# EAGLE library part MAPLE_MINI (library maple_mini)
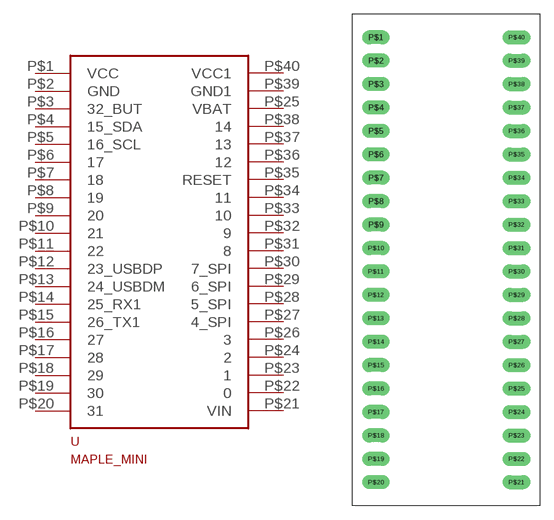
[diagram p0: symbol with the pads of MAPLE_MINI; footprint MAPLE_MINI]

Designator prefix -

## MAPLE_MINI  [MAPLE_MINI]
P$1  VCC
P$2  GND
P$3  32_BUT
P$4  15_SDA
P$5  16_SCL
P$6  17
P$7  18
P$8  19
P$9  20
P$10  21
P$11  22
P$12  23_USBDP
P$13  24_USBDM
P$14  25_RX1
P$15  26_TX1
P$16  27
P$17  28
P$18  29
P$19  30
P$20  31
P$21  VIN
P$22  0
P$23  1
P$24  2
P$25  VBAT
P$26  3
P$27  4_SPI
P$28  5_SPI
P$29  6_SPI
P$30  7_SPI
P$31  8
P$32  9
P$33  10
P$34  11
P$35  RESET
P$36  12
P$37  13
P$38  14
P$39  GND1
P$40  VCC1

## Footprint MAPLE_MINI (pad centres in mm)
drill 1 long: P$1 0,0; P$2 0,-2.54; P$3 0,-5.08; P$4 0,-7.62; P$5 0,-10.16; P$6 0,-12.7; P$7 0,-15.24; P$8 0,-17.78; P$9 0,-20.32; P$10 0,-22.86; P$11 0,-25.4; P$12 0,-27.94; P$13 0,-30.48; P$14 0,-33.02; P$15 0,-35.56; P$16 0,-38.1; P$17 0,-40.64; P$18 0,-43.18; P$19 0,-45.72; P$20 0,-48.26; P$21 15.24,-48.26; P$22 15.24,-45.72; P$23 15.24,-43.18; P$24 15.24,-40.64; P$25 15.24,-38.1; P$26 15.24,-35.56; P$27 15.24,-33.02; P$28 15.24,-30.48; P$29 15.24,-27.94; P$30 15.24,-25.4; P$31 15.24,-22.86; P$32 15.24,-20.32; P$33 15.24,-17.78; P$34 15.24,-15.24; P$35 15.24,-12.7; P$36 15.24,-10.16; P$37 15.24,-7.62; P$38 15.24,-5.08; P$39 15.24,-2.54; P$40 15.24,0